# Altium footprint library MSOP-8.PcbLib: 1 footprints
Each footprint in its own frame and in the unit in brackets; x right, y up, seen from the top. Pads: shape width x height; smd on the part's side, far side on the other; paste and mask are expansions set on the pad; w line width, h text height; cw(c..) or ccw(c..) is an arc to the next point about the centre after c.
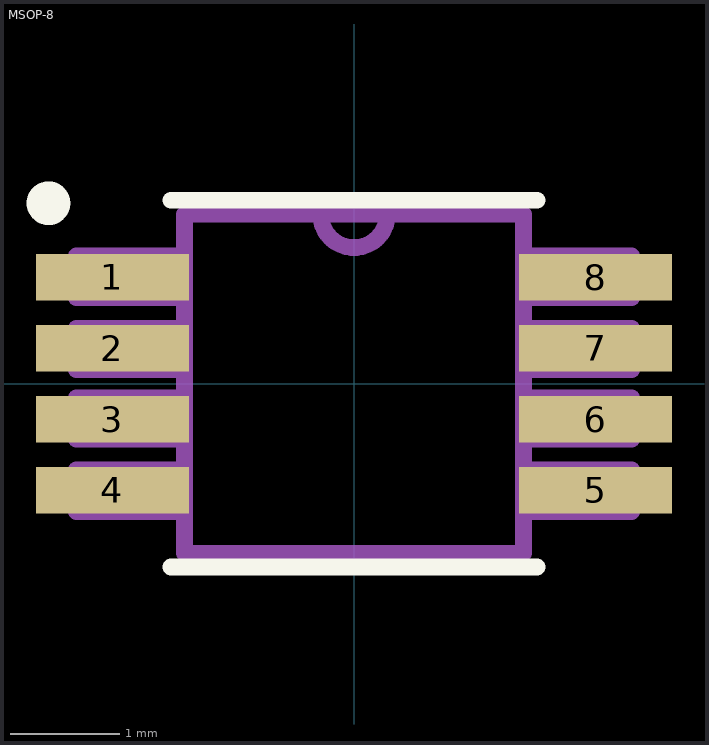
[diagram p0: the footprint, top view; thin cyan lines are the x and y axes]

## MSOP-8 [mm]
pads (8):
  rect 1.4x0.425 smd: 1(-2.21,0.975) 2(-2.21,0.325) 3(-2.21,-0.325) 4(-2.21,-0.975) 5(2.21,-0.975) 6(2.21,-0.325) 7(2.21,0.325) 8(2.21,0.975)
Top Overlay:
  circle w0.2: c-2.794,1.651 r0.1
  lines w0.152: -1.676,-1.676 1.676,-1.676 ; -1.676,1.676 1.676,1.676
Mechanical 13:
  lines w0.152: -0.305,1.549 ccw(c0,1.549) 0.305,1.549 ; -0.305,1.549 -1.549,1.549 -1.549,-1.549 1.549,-1.549 1.549,1.549 0.305,1.549 ; -0.305,1.549 0.305,1.549 ; -2.54,-1.168 -1.549,-1.168 -1.549,-0.787 -2.54,-0.787 -2.54,-1.168 ; -2.54,-0.508 -1.549,-0.508 -1.549,-0.127 -2.54,-0.127 -2.54,-0.508 ; -2.54,0.127 -1.549,0.127 -1.549,0.508 -2.54,0.508 -2.54,0.127 ; -2.54,0.787 -1.549,0.787 -1.549,1.168 -2.54,1.168 -2.54,0.787 ; 1.549,-1.168 2.54,-1.168 2.54,-0.787 1.549,-0.787 1.549,-1.168 ; 1.549,-0.508 2.54,-0.508 2.54,-0.127 1.549,-0.127 1.549,-0.508 ; 1.549,0.127 2.54,0.127 2.54,0.508 1.549,0.508 1.549,0.127 ; 1.549,0.787 2.54,0.787 2.54,1.168 1.549,1.168 1.549,0.787
3D body "step_temp.STEP": height 1.1, standoff 0, extent -2.45,-1.5 2.45,1.5